# Altium schematic symbol library Swage.SchLib: 218 symbols (part 4 of 5)
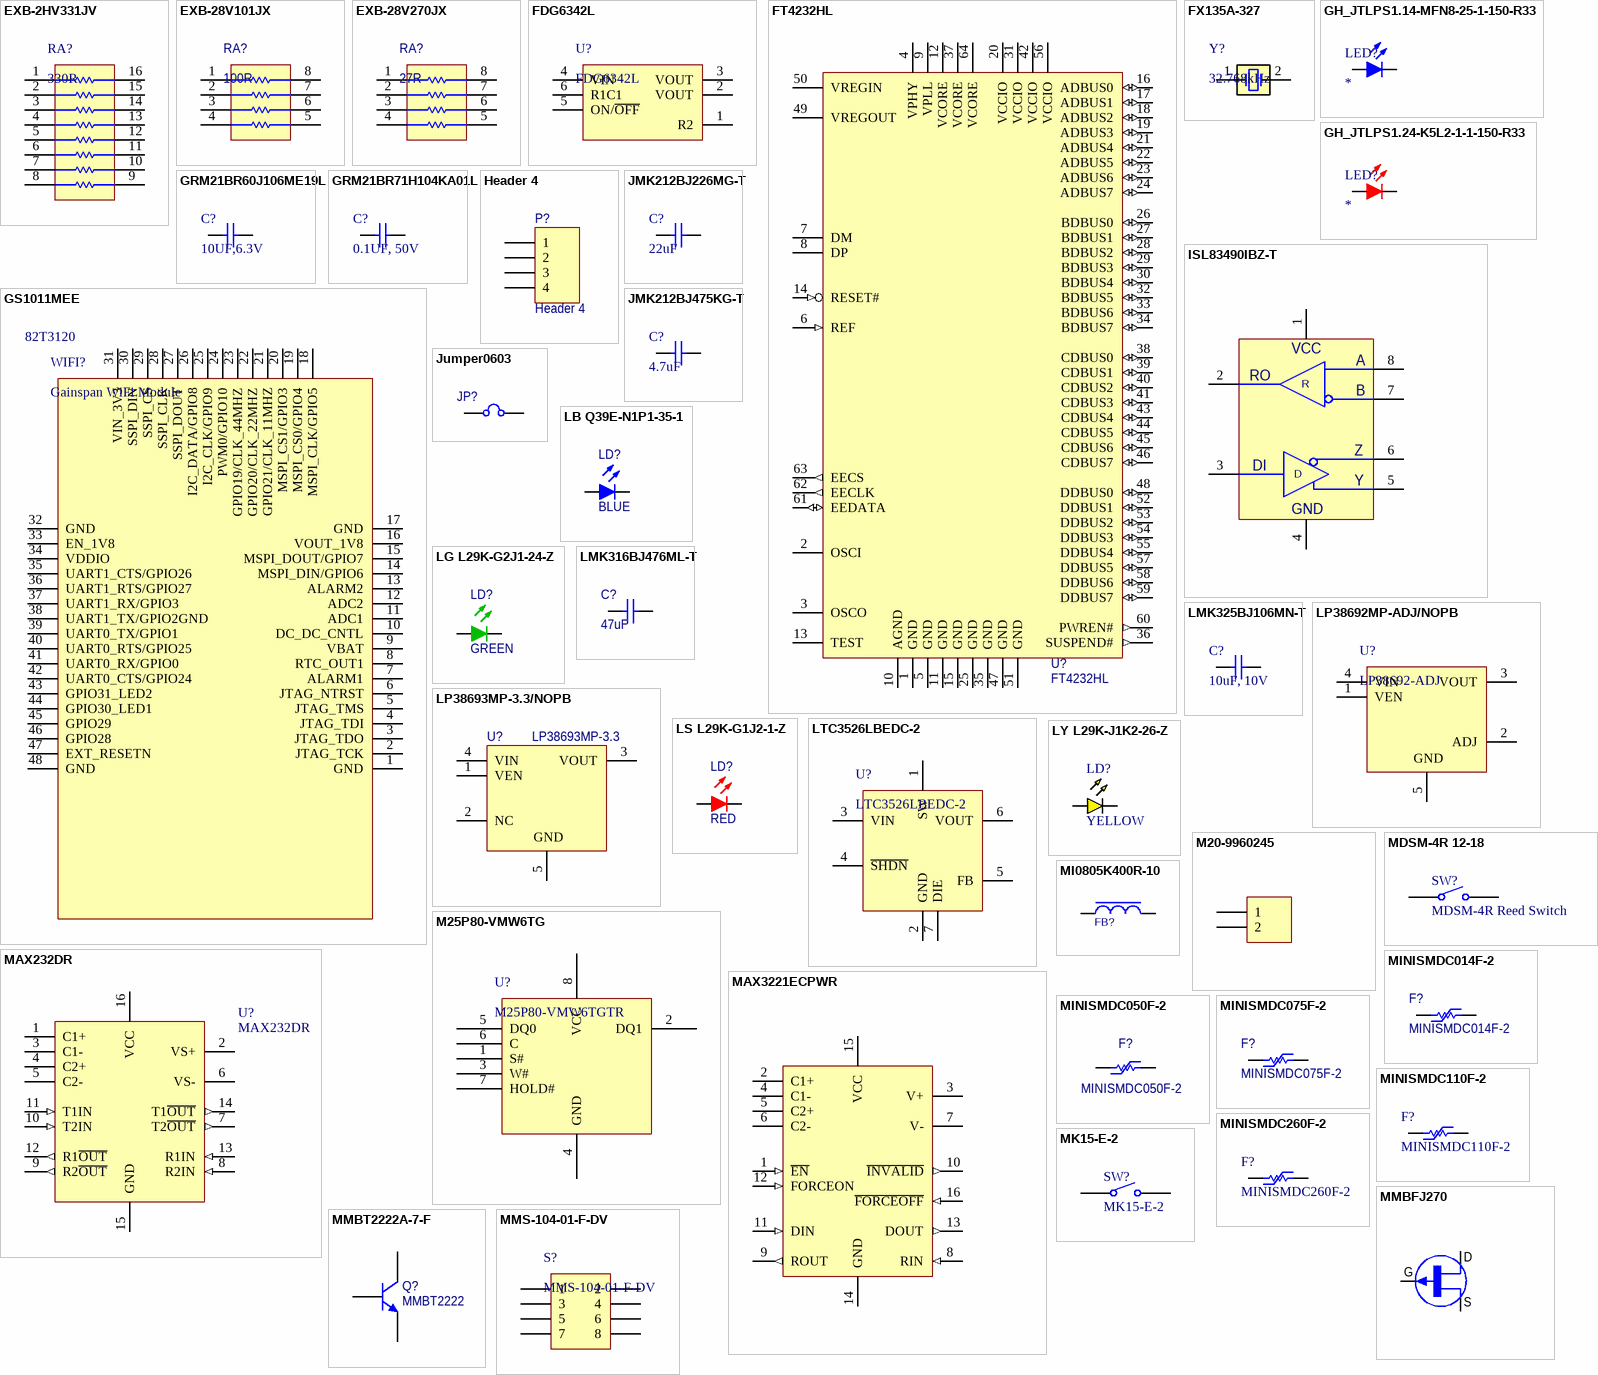
[diagram p8: symbols EXB-2HV331JV to MMS-104-01-F-DV]

## MINISMDC075F-2
designator F?
POLYSWITCH .75A RESET FUSE SMD; Manufacturer: TE Connectivity; Current - Hold (Ih) (Max): 750mA; Current - Trip (It): 1.5A; Current - Max: 100A; Voltage - Max: 13.2V; R Min/Max: 0.110 ~ 0.450 Ohm; Time to Trip: 0.2s; OPI_VID: xxxxx; Supplier 1: Digi-Key; Supplier Part Number 1: MINISMDC075FTR-ND; Manufacturer Part Number: MINISMDC075F-2; RoHS: RoHS Compliant; Category: Circuit Protection; Stock 1: 44000; Pricing 1: 2000=0.18692, 6000=0.17349, 10000=0.1455, 26000=0.13991, 50000=0.13431 (CAD); Package / Case: 1812 (4532 Metric), Concave; Packaging: Tape & Reel (TR); ComponentLink1URL: http://documents.tycoelectronics.com/commerce/DocumentDelivery/DDEController?Action=showdoc&DocId=Specification+Or+Standard%7FSCD25114%7FH%7Fpdf%7FEnglish%7FENG_SS_SCD25114_H.pdf; ComponentLink1Description: http://documents.tycoelectronics.com/commerce/DocumentDelivery/DDEController?Action=showdoc&DocId=Specification+Or+Standard%7FSCD25114%7FH%7Fpdf%7FEnglish%7FENG_SS_SCD25114_H.pdf
footprint MINISMD050 (Polyfuse,)
pins: 1, 2

## MINISMDC110F-2
designator F?
POLYSWITCH 1.1A RESET FUSE SMD; Manufacturer: TE Connectivity; Current - Trip (It): 2.2A; Current - Max: 100A; Voltage - Max: 8V; R Min/Max: 0.040 ~ 0.210 Ohm; Time to Trip: 0.3s; OPI_VID: 101205; Supplier 1: Digi-Key; Manufacturer Part Number: MINISMDC110F-2; RoHS: RoHS Compliant; Category: Circuit Protection; Stock 1: 24000; Pricing 1: 2000=0.17214, 6000=0.15977, 10000=0.134, 26000=0.12885, 50000=0.12369 (CAD); Current - Hold (Ih) (Max): 1.1A; Package / Case: 1812 (4532 Metric), Concave; Packaging: Tape & Reel (TR); ComponentLink1URL: http://www.te.com/commerce/DocumentDelivery/DDEController?Action=srchrtrv&DocNm=SCD25273&DocType=Customer+Drawing&DocLang=English; ComponentLink1Description: http://www.te.com/commerce/DocumentDelivery/DDEController?Action=srchrtrv&DocNm=SCD25273&DocType=Customer+Drawing&DocLang=English; Supplier Part Number 1: MINISMDC110FTR-ND
footprint MINISMDC260F (Polyfuse, Body 45x32mm, Case 1812)
pins: 1, 2

## MINISMDC260F-2
designator F?
POLYSWITCH 2.6A RESET FUSE SMD; Manufacturer: TE Connectivity; Current - Trip (It): 5A; Current - Max: 100A; Voltage - Max: 6V; R Min/Max: 0.015 ~ 0.043 Ohm; Time to Trip: 7s; OPI_VID: 101385; Supplier 1: Digi-Key; Manufacturer Part Number: MINISMDC260F-2; RoHS: RoHS Compliant; Category: Circuit Protection; Stock 1: 6000; Pricing 1: 2000=0.2349, 6000=0.21802, 10000=0.18285, 26000=0.17582, 50000=0.16879 (CAD); Current - Hold (Ih) (Max): 2.6A; Package / Case: 1812 (4532 Metric), Concave; Packaging: Tape & Reel (TR); ComponentLink1URL: http://www.te.com/commerce/DocumentDelivery/DDEController?Action=showdoc&DocId=Catalog+Section%7FSURFACE-MOUNT%7FA1%7Fpdf%7FEnglish%7FENG_CS_SURFACE-MOUNT_A1.pdf; ComponentLink1Description: http://www.te.com/commerce/DocumentDelivery/DDEController?Action=showdoc&DocId=Catalog+Section%7FSURFACE-MOUNT%7FA1%7Fpdf%7FEnglish%7FENG_CS_SURFACE-MOUNT_A1.pdf; Supplier Part Number 1: MINISMDC260FTR-ND
footprint MINISMDC260F (Polyfuse, Body 45x32mm, Case 1812)
pins: 1, 2

## MK15-E-2
designator SW?
SWITCH REED MAG SMT 25-30 AT; Manufacturer: Standex-Meder Electronics; Category 1: Switches; Circuit: SPST-NO; Must Operate: 25 ~ 30AT; Switching Current (DC) (Max): 500mA; Switching Voltage (DC) (Max): 180V; Switching Power (Max): 10W; Magnet: Not Specified; OPI_VID: 101384; Supplier 1: Digi-Key; Supplier Part Number 1: 374-1303-1-ND; Manufacturer Part Number: MK15-E-2; RoHS 1: RoHS Compliant; Stock 1: 4362; Pricing 1: 1=1.91, 10=1.674, 25=1.6076, 100=1.4735, 250=1.17212, 500=1.07162, 1000=1.03814 (CAD); Packaging: Cut Tape (CT); Type: Molded Body; Must Release: -; Mounting Type: PCB, Surface Mount; Termination Style: Gull Wing; ComponentLink1URL: http://www.meder.com/fileadmin/products/en_datasheets/9151710025e.pdf; ComponentLink1Description: http://www.meder.com/fileadmin/products/en_datasheets/9151710025e.pdf
footprint MK15-E-2 (Reed Switch, 2-Leads, Body 16x2.84mm, IPC Medium Density)
pins: 1, 2

## MMBFJ270
designator Q?
IC SWITCH P-CHANNEL SOT-23; Manufacturer: Fairchild Semiconductor; Current - Drain (Idss) @ Vds (Vgs: 0)=2mA @ 15V; Voltage - Breakdown (V(BR)GSS): 30V; Voltage - Cutoff (VGS off) @ Id: 500mV @ 1nA; Power - Max: 225mW; OPI_VID: 101484; Supplier 1: Digi-Key; Supplier Part Number 1: MMBFJ270TR-ND; Manufacturer Part Number: MMBFJ270; RoHS: RoHS Compliant; Category: Discrete Semiconductor Products; Stock 1: 15000; Pricing 1: 3000=0.14055, 6000=0.13203, 15000=0.12352, 30000=0.11329, 75000=0.10903, 150000=0.10477 (CAD); Packaging: Tape & Reel (TR); Drain to Source Voltage (Vdss): -; Current Drain (Id) - Max: -; FET Type: P-Channel; Input Capacitance (Ciss) @ Vds: -; Resistance - RDS(On): -; Mounting Type: Surface Mount; Package / Case: TO-236-3, SC-59, SOT-23-3; Supplier Device Package: SOT-23-3 (TO-236); ComponentLink1URL: http://www.fairchildsemi.com/ds/MM/MMBFJ270.pdf; ComponentLink1Description: http://www.fairchildsemi.com/ds/MM/MMBFJ270.pdf
footprint SOT23 (SOT-23; 3 Leads; Body 3.0 x 2.6 mm, inc. leads (LxW max))
pins: 1 D, 2 S, 3 G

## MMBT2222A-7-F
designator Q?, comment MMBT2222
TRANS NPN 40V 350MW SMD SOT23-3; Manufacturer: Diodes Inc; Manufacturer Part Number: MMBT2222A-7-F; Category 1: Discrete Semiconductor Products; Current - Collector (Ic) (Max): 600mA; Vce Saturation (Max) @ Ib, Ic: 1V @ 50mA, 500mA; DC Current Gain (hFE) (Min) @ Ic, Vce: 100 @ 150mA, 10V; Power - Max: 300mW; Frequency - Transition: 300MHz; OPI_VID: 101075; Supplier 1: Digi-Key; Supplier Part Number 1: MMBT2222A-FDITR-ND; RoHS 1: RoHS Compliant; Description 1: TRANS NPN 40V 350MW SMD SOT23-3; Stock 1: 1557000; Pricing 1: 3000=0.0243, 6000=0.02115, 12000=0.018, 27000=0.0153, 51000=0.0135, 102000=0.0117 (USD); Transistor Type: NPN; Voltage - Collector Emitter Breakdown (Max): 40V; Current - Collector Cutoff (Max): -; Mounting Type: Surface Mount; Package / Case: TO-236-3, SC-59, SOT-23-3; Packaging: Tape & Reel (TR); Supplier Device Package: *; ComponentLink1URL: http://www.diodes.com/datasheets/ds30041.pdf; ComponentLink1Description: http://www.diodes.com/datasheets/ds30041.pdf
footprint SOT23 (SOT-23; 3 Leads; Body 3.0 x 2.6 mm, inc. leads (LxW max))
footprint SOT23 (SOT-23; 3 Leads; Body 3.0 x 2.6 mm, inc. leads (LxW max))
pins: 1 B, 2 E, 3 C

## MMS-104-01-F-DV
designator S?
CONN RCPT 2MM 8POS DL VERT PCB; Manufacturer: Samtec Inc; Connector Type: Receptacle; Number of Positions: 8; Number of Positions Loaded: All; Pitch: 0.079" (2.00mm); OPI_VID: 101488; Single Source: YES, 2 week lead time; Supplier 1: Digi-Key; Manufacturer Part Number: MMS-104-01-F-DV; RoHS: RoHS Compliant; Category: Connectors, Interconnects; Stock 1: 0; Pricing 1: 1=2.61, 10=2.261, 100=1.9131, 500=1.52184, 1000=1.23922, 5000=1.13051, 10000=1.08703 (CAD); Contact Type: Female Socket; Number of Rows: 2; Row Spacing: 0.079" (2.00mm); Mounting Type: Through Hole; Termination: Solder; Fastening Type: -; Features: -; Contact Finish: Tin; Contact Finish Thickness: -; Color: Black; Packaging: Tube; ComponentLink1URL: http://www.samtec.com/ftppub/cpdf/MMS01MKT.PDF; ComponentLink1Description: http://www.samtec.com/ftppub/cpdf/MMS01MKT.PDF; Supplier Part Number 1: SAM1232-04-ND
footprint hirose-2x4 (A3D-8DA-2DSE, 2mm pitch, Female)
pins: 1, 2, 3, 4, 5, 6, 7, 8

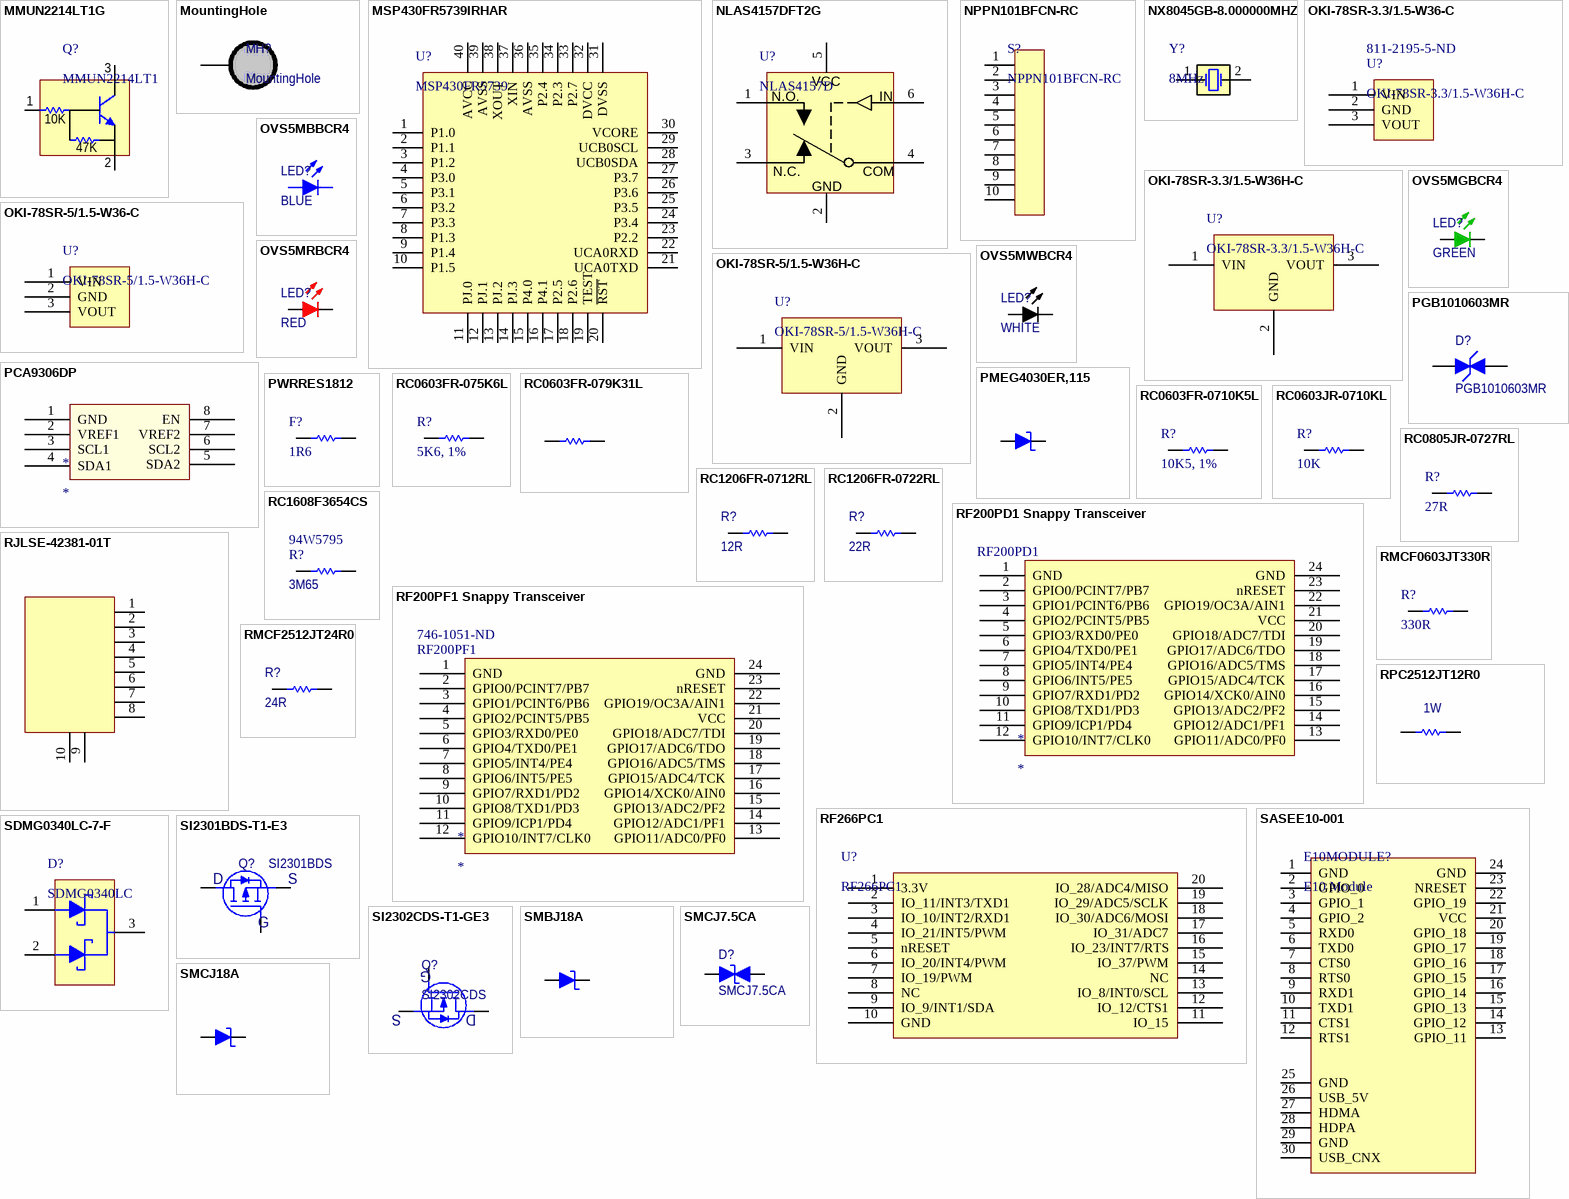
[diagram p4: symbols MMUN2214LT1G to SMCJ18A]

## MMUN2214LT1G
designator Q?, comment MMUN2214LT1
TRANS BRT NPN 100MA 50V SOT-23; Manufacturer: ON Semiconductor; Manufacturer Part Number: MMUN2214LT1G; Transistor Type: NPN - Pre-Biased; Resistor - Base (R1) (Ohms): 10k; Resistor - Emitter Base (R2) (Ohms): 47k; DC Current Gain (hFE) (Min) @ Ic, Vce: 80 @ 5mA, 10V; Vce Saturation (Max) @ Ib, Ic: 250mV @ 300µA, 10mA; Current - Collector Cutoff (Max): 500nA; Power - Max: 246mW; OPI_VID: xxxxx; Supplier 1: Digi-Key; RoHS: RoHS Compliant; Category: Discrete Semiconductor Products; Stock 1: 36000; Pricing 1: 3000=0.02464, 6000=0.02223, 15000=0.01933, 30000=0.01739, 75000=0.01546, 150000=0.01285 (CAD); Current - Collector (Ic) (Max): 100mA; Voltage - Collector Emitter Breakdown (Max): 50V; Frequency - Transition: -; Mounting Type: Surface Mount; Package / Case: TO-236-3, SC-59, SOT-23-3; Supplier Device Package: SOT-23-3 (TO-236); Packaging: Tape & Reel (TR); ComponentLink1URL: http://www.onsemi.com/pub_link/Collateral/DTC114Y-D.PDF; ComponentLink1Description: http://www.onsemi.com/pub_link/Collateral/DTC114Y-D.PDF; Supplier Part Number 1: MMUN2214LT1GOSTR-ND
footprint SOT23 (SOT-23; 3 Leads; Body 3.0 x 2.6 mm, inc. leads (LxW max))
pins: 1 B, 2 E, 3 C
text: 10K; 47K

## MountingHole
designator MH?
PCB Mounting Hole, 0.150" hole, 0.270" Keepout
footprint MountingHole (PCB Mounting Hole, 0.150" hole, 0.270" Keepout)
pins: 1

## MSP430FR5739IRHAR
designator U?, comment MSP430FR5739
IC MCU 16BIT 16KB FRAM 40VQFN; Manufacturer: Texas Instruments; Manufacturer Part Number: MSP430FR5739IRHAR; Core Processor: RISC; Core Size: 16-Bit; Speed: 24MHz; Connectivity: I²C, IrDA, LIN, SCI, SPI, UART/USART; Peripherals: Brown-out Detect/Reset, POR, PWM, WDT; Number of I /O: 32; Program Memory Size: 16KB (16K x 8); RAM Size: 1K x 8; Voltage - Supply (Vcc/Vdd): 2 V ~ 3.6 V; Data Converters: A/D 14x10b; Oscillator Type: Internal; OPI_VID: xxxxx; Supplier 1: Digi-Key; RoHS: RoHS Compliant; Category: Integrated Circuits (ICs); Stock 1: 2500; Pricing 1: 2500=2.95556 (CAD); Program Memory Type: FRAM; EEPROM Size: -; Operating Temperature: -40°C ~ 85°C; Package / Case: 40-VFQFN Exposed Pad; Packaging: Tape & Reel (TR); ComponentLink1URL: http://www.ti.com/lit/ds/symlink/msp430fr5739.pdf; ComponentLink1Description: http://www.ti.com/lit/ds/symlink/msp430fr5739.pdf; Supplier Part Number 1: 296-29236-2-ND
footprint MSP430FR5739IRHA (QFN, 40-Leads, Body 6.2x6.2mm (max), Pitch 0.50mm, IPC Medium Density)
pins: 1 P1.0, 2 P1.1, 3 P1.2, 4 P3.0, 5 P3.1, 6 P3.2, 7 P3.3, 8 P1.3, 9 P1.4, 10 P1.5, 11 PJ.0, 12 PJ.1, 13 PJ.2, 14 PJ.3, 15 P4.0, 16 P4.1, 17 P2.5, 18 P2.6, 19 TEST, 20 ~{RST}, 21 UCA0TXD, 22 UCA0RXD, 23 P2.2, 24 P3.4, 25 P3.5, 26 P3.6, 27 P3.7, 28 UCB0SDA, 29 UCB0SCL, 30 VCORE, 31 DVSS, 32 DVCC, 33 P2.7, 34 P2.3, 35 P2.4, 36 AVSS, 37 XIN, 38 XOUT, 39 AVSS, 40 AVCC

## NLAS4157DFT2G
designator U?, comment NLAS4157D
IC SWITCH SPDT SC88; Manufacturer: ON Semiconductor; Manufacturer Part Number: NLAS4157DFT2G; Circuit: 1 x SPDT; On-State Resistance: 1.15 Ohm; Voltage Supply Source: Single Supply; Voltage - Supply, Single/Dual (±): 1.65 V ~ 5.5 V; Current - Supply: 500nA; OPI_VID: 101351; Supplier 1: Digi-Key; RoHS: RoHS Compliant; Category: Integrated Circuits (ICs); Stock 1: 3000; Pricing 1: 3000=0.15291, 6000=0.14305, 15000=0.13318, 30000=0.12628, 75000=0.12332, 150000=0.11838 (CAD); Function: Switch; Operating Temperature: -40°C ~ 85°C; Mounting Type: Surface Mount; Package / Case: 6-TSSOP, SC-88, SOT-363; Supplier Device Package: SC-88; Packaging: Tape & Reel (TR); ComponentLink1URL: http://www.onsemi.com/pub_link/Collateral/NLAS4157-D.PDF; ComponentLink1Description: http://www.onsemi.com/pub_link/Collateral/NLAS4157-D.PDF; Supplier Part Number 1: NLAS4157DFT2GOSTR-ND
footprint TS5A3160 (SOT23, 6-Leads, Body 2.2x2.4mm (max), Pitch 0.65mm, IPC Medium Density)
pins: 1 NO, 2 GND, 3 NC, 4, 5, 6
text: VCC; N.O.; IN; N.C.; COM

## NPPN101BFCN-RC
designator S?
CONN RECEPT 2MM SINGLE STR 10POS; Manufacturer: Sullins Connector Solutions; Connector Type: Header; Number of Positions: 10; Number of Positions Loaded: All; Pitch: 0.079" (2.00mm); OPI_VID: xxxxx; Supplier 1: Digi-Key; Manufacturer Part Number: NPPN101BFCN-RC; RoHS: RoHS Compliant; Category: Connectors, Interconnects; Stock 1: 16655; Pricing 1: 1=1.19, 10=0.99, 25=0.9172, 50=0.8252, 100=0.7335, 250=0.6418, 500=0.58676, 1000=0.53176, 2500=0.47675 (CAD); Contact Type: Female Socket; Number of Rows: 1; Row Spacing: -; Mounting Type: Through Hole; Termination: Solder; Fastening Type: -; Features: -; Contact Finish: Gold; Contact Finish Thickness: Flash; Color: Black; Packaging: Bulk; ComponentLink1URL: http://www.sullinscorp.com/drawings/75_1BFC_10483.pdf; ComponentLink1Description: http://www.sullinscorp.com/drawings/75_1BFC_10483.pdf; Supplier Part Number 1: S5751-10-ND
pins: 1, 2, 3, 4, 5, 6, 7, 8, 9, 10

## NX8045GB-8.000000MHZ
designator Y?, comment 8MHz
CRYSTAL 8.000000 MHZ 8PF SMD; Manufacturer: NDK; Manufacturer Part Number: NX8045GB-8.000000MHZ; Frequency Stability: ±50ppm; ESR (Equivalent Series Resistance): 200 Ohm; Operating Mode: Fundamental; OPI_VID: 101362; Supplier 1: Digi-Key; RoHS: RoHS Compliant; Category: Crystals and Oscillators; Stock 1: 24000; Pricing 1: 1000=0.30318, 3000=0.29236, 5000=0.28153, 10000=0.27071, 25000=0.25988 (CAD); Type: MHz Crystal; Frequency: 8MHz; Frequency Tolerance: ±50ppm; Load Capacitance: 8pF; Operating Temperature: -10°C ~ 70°C; Ratings: -; Mounting Type: Surface Mount; Package / Case: 2-SMD; Size / Dimension: 0.315" L x 0.177" W (8.00mm x 4.50mm); Height: 0.079" (2.00mm); Packaging: Tape & Reel (TR); ComponentLink1URL: http://media.digikey.com/pdf/Data%20Sheets/NDK%20PDFs/NX8045GB.pdf; ComponentLink1Description: http://media.digikey.com/pdf/Data%20Sheets/NDK%20PDFs/NX8045GB.pdf; Supplier Part Number 1: 644-1018-2-ND
footprint NX8045GB (Crystal, 8MHz, SMD)
pins: 1 OSC1, 2 OSC2

## OKI-78SR-3.3/1.5-W36-C
designator U?, comment OKI-78SR-3.3/1.5-W36H-C  Supplier Part Number 1: 811-2195-5-ND
CONV DC/DC 4.95W 36VIN 3.3VOUT; Manufacturer: Murata Power Solutions Inc; Manufacturer Part Number: OKI-78SR-3.3/1.5-W36-C; Power (Watts) - Manufacture Series: 5W; Number of Outputs: 1; Voltage - Input (Min): 7V; Voltage - Input (Max): 36V; Voltage - Output 1: 3.3V; Current - Output (Max): 1.5A; Efficiency: 85.5%; OPI_VID: xxxxx; Supplier 1: Digi-Key; RoHS: RoHS Compliant; Category: Power Supplies - Board Mount; Stock 1: 2633; Pricing 1: 1=4.3, 5=4.26, 10=4.23, 25=4.17, 50=4.04, 100=3.78, 250=3.60432 (USD); Type: Non-Isolated PoL Module, Analog; Voltage - Output 2: -; Voltage - Output 3: -; Voltage - Isolation: *; Features: *; Mounting Type: Through Hole; Package / Case: 3-SIP Module; Size / Dimension: 0.41" L x 0.30" W x 0.65" H (10.4mm x 7.6mm x 16.5mm); Packaging: Tube; Operating Temperature: -40°C ~ 85°C; Power (Watts) - Max: 4.95W; ComponentLink1URL: http://www.murata-ps.com/data/power/oki-78sr.pdf; ComponentLink1Description: http://www.murata-ps.com/data/power/oki-78sr.pdf
pins: 1 VIN, 2 GND, 3 VOUT

## OKI-78SR-3.3/1.5-W36H-C
designator U?
DC/DC Converters 24Vin 3.3Vout 1.5A Horizontal Mount; Manufacturer: Murata Power Solutions; Input Voltage (nominal): 24 V; Number of Outputs: 1; Output Power: 4.95 W; Package / Case Size: 16.5 mm x 10.4 mm x 7.6 mm; Input Voltage Range: 7 V to 36 V; Output Voltage (Channel 1): 3.3 V; Product Status: New Product; OPI_VID: 101415; Supplier 1: Mouser; Supplier Part Number 1: 580-OKI78SR3.31.5WHC; Manufacturer Part Number: OKI-78SR-3.3/1.5-W36H-C; RoHS: RoHS Compliant; Category: DC/DC Converters; Stock 1: 723; Pricing 1: 1=4.58, 5=4.49, 10=4.43, 25=4.35, 50=4.23, 100=4.00, 200=3.82 (CAD); Product: Non-Isolated / POL; Series: Okami; Mounting Style: SMD/SMT; Output Current (Channel 1): 1.5 A; Product Category: Non-Isolated DC-DC Converters; RoHS - Mouser: Y; Minimum Order Quantity: 1; Reeling: False; ComponentLink1URL: http://www.mouser.com/ds/2/281/oki-78sr-56393.pdf; ComponentLink1Description: http://www.mouser.com/ds/2/281/oki-78sr-56393.pdf
footprint OKI-SR78xx-H (Regulator, 3 Terminal, Switching, Horizontal Mount)
pins: 1 VIN, 2 GND, 3 VOUT

## OKI-78SR-5/1.5-W36-C
designator U?, comment OKI-78SR-5/1.5-W36H-C
CONV DC/DC 7.5W 36VIN 5VOUT; Manufacturer: Murata Power Solutions Inc; Manufacturer Part Number: OKI-78SR-5/1.5-W36-C; Power (Watts) - Manufacture Series: 8W; Number of Outputs: 1; Voltage - Input (Min): 7V; Voltage - Input (Max): 36V; Voltage - Output 1: 5V; Current - Output (Max): 1.5A; Efficiency: 90.5%; OPI_VID: xxxxx; Supplier 1: Digi-Key; RoHS: RoHS Compliant; Category: Power Supplies - Board Mount; Stock 1: 855; Pricing 1: 1=4.3, 5=4.26, 10=4.23, 25=4.17, 50=4.04, 100=3.78, 250=3.60432 (USD); Type: Non-Isolated PoL Module, Analog; Voltage - Output 2: -; Voltage - Output 3: -; Voltage - Isolation: *; Features: *; Mounting Type: Through Hole; Package / Case: 3-SIP Module; Size / Dimension: 0.41" L x 0.30" W x 0.65" H (10.4mm x 7.6mm x 16.5mm); Packaging: Tube; Operating Temperature: -40°C ~ 85°C; Power (Watts) - Max: 7.5W; ComponentLink1URL: http://www.murata-ps.com/data/power/oki-78sr.pdf; ComponentLink1Description: http://www.murata-ps.com/data/power/oki-78sr.pdf; Supplier Part Number 1: 811-2196-5-ND
pins: 1 VIN, 2 GND, 3 VOUT

## OKI-78SR-5/1.5-W36H-C
designator U?
DC/DC Converters 7.5W 24V 5Vout 1.5A Horizontal Mount; Manufacturer: Murata Power Solutions; Number of Outputs: 1; Package / Case Size: 16.5 mm x 10.4 mm x 7.6 mm; Input Voltage Range: 7 V to 36 V; Output Voltage (Channel 1): 5 V; Product Status: New Product; OPI_VID: 101414; Supplier 1: Mouser; Supplier Part Number 1: 580-OKI78SR51.5W36HC; Manufacturer Part Number: OKI-78SR-5/1.5-W36H-C; RoHS: RoHS Compliant; Category: DC/DC Converters; Stock 1: 5455; Pricing 1: 1=4.58, 5=4.49, 10=4.43, 25=4.35, 50=4.23, 100=4.00, 200=3.82 (CAD); Input Voltage (nominal): 24 V; Output Power: 7.5 W; Product: Non-Isolated / POL; Series: Okami; Mounting Style: SMD/SMT; Output Current (Channel 1): 1.5 A; Product Category: Non-Isolated DC-DC Converters; RoHS - Mouser: Y; Minimum Order Quantity: 1; Reeling: False; ComponentLink1URL: http://www.mouser.com/ds/2/281/oki-78sr-56393.pdf; ComponentLink1Description: http://www.mouser.com/ds/2/281/oki-78sr-56393.pdf
footprint OKI-SR78xx-H (Regulator, 3 Terminal, Switching, Horizontal Mount)
pins: 1 VIN, 2 GND, 3 VOUT

## OVS5MBBCR4
designator LED?, comment BLUE
LED 0.48W BLUE WTR CLR 3.5MM; Manufacturer: TT Electronics/Optek Technology; Manufacturer Part Number: OVS5MBBCR4; Current - Max: 180mA; Voltage - Forward (Vf) Typ: 3.4V; Lumens @ Current - Max: 7 lm; Luminous Flux @ Current - Test: 6 lm; Lumens/Watt @ Current - Test: 12 lm/W; Current - Test: 150mA; Wavelength: 470nm; Lens Style/Size: Round with Flat Top, 2.6mm; Viewing Angle: 120°; OPI_VID: 101534; Supplier 1: Digi-Key; Supplier Part Number 1: 365-1544-2-ND; RoHS: RoHS Compliant; Category: Optoelectronics; Stock 1: 17000; Pricing 1: 1000=0.33931, 3000=0.32892, 5000=0.31103, 10000=0.3075, 25000=0.29696 (CAD); Color: Blue; Mounting Type: Surface Mount; Package / Case: 0.14" L x 0.14" W x 0.05" H (3.5mm x 3.5mm x 1.2mm); Packaging: Tape & Reel (TR); ComponentLink1URL: http://www.optekinc.com/datasheets/OVS5MABCR4.pdf; ComponentLink1Description: http://www.optekinc.com/datasheets/OVS5MABCR4.pdf
footprint LED-OVS5MxBCR4 (LED, Water Clear Lens, 3.5mm x 3.5mm x 1.2mm)
pins: A, K

## OVS5MGBCR4
designator LED?, comment GREEN
LED 0.48W GREEN WTR CLR 3.5MM; Manufacturer: TT Electronics/Optek Technology; Manufacturer Part Number: OVS5MGBCR4; Current - Max: 180mA; Voltage - Forward (Vf) Typ: 3.4V; Lumens @ Current - Max: 28 lm; Luminous Flux @ Current - Test: 25 lm; Lumens/Watt @ Current - Test: 49 lm/W; Current - Test: 150mA; Wavelength: 527nm; Lens Style/Size: Round with Flat Top, 2.6mm; Viewing Angle: 120°; OPI_VID: 101325; Supplier 1: Digi-Key; Supplier Part Number 1: 365-1545-2-ND; RoHS: RoHS Compliant; Category: Optoelectronics; Stock 1: 2000; Pricing 1: 1000=0.76344, 3000=0.73163, 5000=0.71042, 10000=0.68922, 25000=0.66801 (CAD); Color: Green; Mounting Type: Surface Mount; Package / Case: 0.14" L x 0.14" W x 0.05" H (3.5mm x 3.5mm x 1.2mm); Packaging: Tape & Reel (TR); ComponentLink1URL: http://www.optekinc.com/datasheets/OVS5MABCR4.pdf; ComponentLink1Description: http://www.optekinc.com/datasheets/OVS5MABCR4.pdf
footprint LED-OVS5MxBCR4 (LED, Water Clear Lens, 3.5mm x 3.5mm x 1.2mm)
pins: A, K

## OVS5MRBCR4
designator LED?, comment RED
LED 0.33W RED WTR CLR 3.5MM; Manufacturer: TT Electronics/Optek Technology; Manufacturer Part Number: OVS5MRBCR4; Current - Max: 200mA; Voltage - Forward (Vf) Typ: 2.2V; Current - Test: 150mA; Wavelength: 625nm; Lens Style/Size: Round with Flat Top, 2.6mm; Viewing Angle: 120°; OPI_VID: 101324; Supplier 1: Digi-Key; Supplier Part Number 1: 365-1546-2-ND; RoHS: RoHS Compliant; Category: Optoelectronics; Stock 1: 6000; Pricing 1: 1000=0.29689, 3000=0.28629, 5000=0.27569, 10000=0.26508, 25000=0.25448 (CAD); Color: Red; Lumens @ Current - Max: -; Luminous Flux @ Current - Test: -; Lumens/Watt @ Current - Test: -; Mounting Type: Surface Mount; Package / Case: 0.14" L x 0.14" W x 0.05" H (3.5mm x 3.5mm x 1.2mm); Packaging: Tape & Reel (TR); ComponentLink1URL: http://www.optekinc.com/datasheets/OVS5MABCR4.pdf; ComponentLink1Description: http://www.optekinc.com/datasheets/OVS5MABCR4.pdf
footprint LED-OVS5MxBCR4 (LED, Water Clear Lens, 3.5mm x 3.5mm x 1.2mm)
pins: A, K

## OVS5MWBCR4
designator LED?, comment WHITE
LED 0.48W WHITE WTR CLR 3.5MM; Manufacturer: TT Electronics/Optek Technology; Manufacturer Part Number: OVS5MWBCR4; Current - Max: 180mA; Voltage - Forward (Vf) Typ: 3.6V; Lumens @ Current - Max: 28 lm; Luminous Flux @ Current - Test: 25 lm; Lumens/Watt @ Current - Test: 46 lm/W; Current - Test: 150mA; Lens Style/Size: Round with Flat Top, 2.6mm; Viewing Angle: 120°; OPI_VID: xxxxx; Supplier 1: Digi-Key; Supplier Part Number 1: 365-1547-2-ND; RoHS: RoHS Compliant; Category: Optoelectronics; Stock 1: 10000; Pricing 1: 1000=0.47715, 3000=0.45594, 5000=0.44534, 10000=0.42413, 25000=0.41353 (CAD); Color: White; Wavelength: -; Mounting Type: Surface Mount; Package / Case: 0.14" L x 0.14" W x 0.05" H (3.5mm x 3.5mm x 1.2mm); Packaging: Tape & Reel (TR); ComponentLink1URL: http://www.optekinc.com/datasheets/OVS5MABCR4.pdf; ComponentLink1Description: http://www.optekinc.com/datasheets/OVS5MABCR4.pdf
footprint LED-OVS5MxBCR4 (LED, Water Clear Lens, 3.5mm x 3.5mm x 1.2mm)
pins: A, K

## PCA9306DP
designator *
IC LEVEL TRANSLATOR - TSSOP8; Manufacturer: ON Semiconductor; Manufacturer Part Number: PCA9306DTR2G; Description 1: IC VOLT LEVEL TRANSLATOR 8-TSSOP; Category 1: Integrated Circuits (ICs); Logic Function: Translator, Bidirectional, Open Drain; Number of Bits: 2; Input Type: Voltage; Number of Outputs/Channel: 1; Differential - Input:Output: No/No; Propagation Delay (Max): 0.6ns; Voltage - Supply: 1 V ~ 3.6 V, 1.8 V ~ 5.5 V; OPI_VID: 101536; Supplier 1: Digi-Key; Supplier Part Number 1: PCA9306DTR2GOSCT-ND; RoHS 1: RoHS Compliant; Stock 1: 2822; Pricing 1: 1=0.85, 10=0.743, 25=0.6568, 100=0.5721, 250=0.498, 500=0.42392, 1000=0.33955 (CAD); Packaging: Cut Tape (CT); Output Type: Voltage; Data Rate: -; Number of Channels: 2; Operating Temperature: -55°C ~ 125°C; Package / Case: 8-TSSOP (0.173", 4.40mm Width); Supplier Device Package: 8-TSSOP; Mounting Type: Surface Mount; ComponentLink1URL: http://www.onsemi.com/pub_link/Collateral/PCA9306-D.PDF; ComponentLink1Description: http://www.onsemi.com/pub_link/Collateral/PCA9306-D.PDF
footprint TSOP65P640X120-8N (TSOP, 8-Leads, Body 3.00x4.40mm, Pitch 0.65mm, IPC Medium Density)
pins: 1 GND, 2 VREF1, 3 SCL1, 4 SDA1, 5 SDA2, 6 SCL2, 7 VREF2, 8 EN

## PGB1010603MR
designator D?
SUPPRESSOR ESD 24VDC 0603 SMD; Manufacturer: Littelfuse Inc; Category 1: Circuit Protection; Voltage - Reverse Standoff (Typ): 24V; Polarization: Bidirectional; OPI_VID: 101020; Supplier 1: Digi-Key; Supplier Part Number 1: F3591TR-ND; RoHS 1: RoHS Compliant; Description 1: SUPPRESSOR ESD 24VDC 0603 SMD; Stock 1: 10000; Pricing 1: 5000=0.189, 10000=0.176, 25000=0.166 (USD); Voltage - Breakdown: -; Mounting Type: Surface Mount; Package / Case: 0603 (1608 Metric); Supplier Device Package: 0603 (1608 Metric); Packaging: Tape & Reel (TR); ComponentLink1URL: http://www.littelfuse.com/data/en/Data_Sheets/Littelfuse_PulseGuard-ESD_PGB1.pdf; ComponentLink1Description: http://www.littelfuse.com/data/en/Data_Sheets/Littelfuse_PulseGuard-ESD_PGB1.pdf; Manufacturer Part Number: PGB1010603MR
footprint RC0603 (Chip Resistor, 2-Leads, Body 1.6x0.8mm, IPC Medium Density)
pins: 1, 2

## PMEG4030ER,115
designator D?
DIODE SCHOTTKY 40V 3A SOD123T; Manufacturer: NXP Semiconductors; Description 1: DIODE SCHOTTKY 40V 3A SOD123W; Category 1: Discrete Semiconductor Products; Voltage - Forward (Vf) (Max) @ If: 540mV @ 3A; Speed: Fast Recovery =< 500ns, > 200mA (Io); Current - Reverse Leakage @ Vr: 100µA @ 40V; Capacitance @ Vr, F: 250pF @ 1V, 1MHz; Thermal Resistance: 18°C/W Jl; OPI_VID: 101442; Supplier 1: Digi-Key; Supplier Part Number 1: 568-6749-2-ND; RoHS 1: RoHS Compliant; Stock 1: 27000; Pricing 1: 3000=0.16633, 6000=0.1556, 15000=0.14487, 30000=0.13736, 75000=0.13414, 150000=0.12877 (CAD); Packaging: Tape & Reel (TR); Diode Type: Schottky; Voltage - DC Reverse (Vr) (Max): 40V; Current - Average Rectified (Io): 3A; Reverse Recovery Time (trr): -; Mounting Type: Surface Mount; Package / Case: SOD-123W; Supplier Device Package: SOD123W; Operating Temperature - Junction: 150°C (Max); ComponentLink1URL: http://www.nxp.com/documents/data_sheet/PMEG4030ER.pdf; ComponentLink1Description: http://www.nxp.com/documents/data_sheet/PMEG4030ER.pdf; Manufacturer Part Number: PMEG4030ER,115
footprint SOD-123T (Molded Diode, 2-Leads, Body 3.70x1.60mm, IPC Medium Density)
pins: 1, 2

## PWRRES1812
designator F?, comment 1R6
RESISTOR 1812 CASE 1R6 SMD; Manufacturer 1: Vishay Dale; Manufacturer Part Number: CRCW12181R60JNEK; Description 1: RES 1.60 OHM 1W 5% 1218 SMD; Category 1: Resistors; Resistance (Ohms): 1.6; Tolerance: ±5%; Power (Watts): 1W; Temperature Coefficient: ±200ppm/°C; OPI_VID: xxxxx; Supplier 1: Digi-Key; Supplier Part Number 1: CRCW12181R60JNEK-ND; RoHS 1: RoHS Compliant; Stock 1: 0; Pricing 1: 4000=0.11076 (CAD); Packaging: Tape & Reel (TR); Composition: Thick Film; Features: Automotive AEC-Q200 Qualified; Package / Case: 1218 (3246 Metric); Supplier Device Package: 1218 (3246 Metric); Size / Dimension: 0.126" L x 0.181" W (3.20mm x 4.60mm); Height: 0.024" (0.60mm); Number of Terminations: 2; ComponentLink1URL: http://www.vishay.com/docs/20035/dcrcwe3.pdf; ComponentLink1Description: http://www.vishay.com/docs/20035/dcrcwe3.pdf; Manufacturer: Vishay Dale
footprint MINISMDC260F (Polyfuse, Body 45x32mm, Case 1812)
pins: 1, 2

## RC0603FR-075K6L
designator R?, comment 5K6, 1%
RES 5.60K OHM 1/10W 1% 0603 SMD; Manufacturer: Yageo; Manufacturer Part Number: RC0603FR-075K6L; Resistance (Ohms): 5.6k; Power (Watts): 0.1W, 1/10W; Temperature Coefficient: ±100ppm/°C; OPI_VID: 101475; Supplier 1: Digi-Key; RoHS: RoHS Compliant; Category: Resistors; Stock 1: 60000; Pricing 1: 5000=0.00199, 10000=0.00173, 25000=0.00152, 50000=0.00139, 125000=0.00137 (CAD); Packaging: Tape & Reel (TR); Composition: Thick Film; Features: -; Tolerance: ±1%; Package / Case: 0603 (1608 Metric); Supplier Device Package: 0603; Size / Dimension: 0.063" L x 0.031" W (1.60mm x 0.80mm); Height: 0.022" (0.55mm); Number of Terminations: 2; ComponentLink1URL: http://www.yageo.com/documents/recent/PYu-RC0603_51_RoHS_L_4.pdf; ComponentLink1Description: http://www.yageo.com/documents/recent/PYu-RC0603_51_RoHS_L_4.pdf; Supplier Part Number 1: 311-5.60KHRTR-ND
footprint RC0603 (Resistor, Capacitor, 0603)
pins: 1, 2

## RC0603FR-079K31L
designator R?, comment 9K31
RES 9.31K OHM 1/10W 1% 0603 SMD; Manufacturer: Yageo; Manufacturer Part Number: RC0603FR-079K31L; Power (Watts): 0.1W, 1/10W; Temperature Coefficient: ±100ppm/°C; OPI_VID: 101474; Supplier 1: Digi-Key; Supplier Part Number 1: 311-9.31KHRTR-ND; RoHS: RoHS Compliant; Category: Resistors; Stock 1: 15000; Pricing 1: 5000=0.00204, 10000=0.00177, 25000=0.00156, 50000=0.00143, 125000=0.0014 (CAD); Packaging: Tape & Reel (TR); Resistance (Ohms): 9.31k; Composition: Thick Film; Features: -; Tolerance: ±1%; Package / Case: 0603 (1608 Metric); Supplier Device Package: 0603; Size / Dimension: 0.063" L x 0.031" W (1.60mm x 0.80mm); Height: 0.022" (0.55mm); Number of Terminations: 2; ComponentLink1URL: http://www.yageo.com/documents/recent/PYu-RC0603_51_RoHS_L_4.pdf; ComponentLink1Description: http://www.yageo.com/documents/recent/PYu-RC0603_51_RoHS_L_4.pdf
footprint RC0603 (Resistor, Capacitor, 0603)
pins: 1, 2

## RC0603FR-0710K5L
designator R?, comment 10K5, 1%
RES 10.5K OHM 1/10W 1% 0603 SMD; Manufacturer: Yageo; Manufacturer Part Number: RC0603FR-0710K5L; Power (Watts): 0.1W, 1/10W; Temperature Coefficient: ±100ppm/°C; OPI_VID: 101476; Supplier 1: Digi-Key; RoHS: RoHS Compliant; Category: Resistors; Stock 1: 135000; Pricing 1: 5000=0.00199, 10000=0.00173, 25000=0.00152, 50000=0.00139, 125000=0.00137 (CAD); Packaging: Tape & Reel (TR); Resistance (Ohms): 10.5k; Composition: Thick Film; Features: -; Tolerance: ±1%; Package / Case: 0603 (1608 Metric); Supplier Device Package: 0603; Size / Dimension: 0.063" L x 0.031" W (1.60mm x 0.80mm); Height: 0.022" (0.55mm); Number of Terminations: 2; ComponentLink1URL: http://www.yageo.com/documents/recent/PYu-RC0603_51_RoHS_L_4.pdf; ComponentLink1Description: http://www.yageo.com/documents/recent/PYu-RC0603_51_RoHS_L_4.pdf; Supplier Part Number 1: 311-10.5KHRTR-ND
footprint RC0603 (Resistor, Capacitor, 0603)
pins: 1, 2

## RC0603JR-0710KL
designator R?, comment 10K
RES 10K OHM 1/10W 5% 0603 SMD; Manufacturer: Yageo; Manufacturer Part Number: RC0603JR-0710KL; Power (Watts): 0.1W, 1/10W; Temperature Coefficient: ±100ppm/°C; OPI_VID: 101044; Supplier 1: Digi-Key; RoHS: RoHS Compliant; Category: Resistors; Stock 1: 2800000; Pricing 1: 5000=0.00148, 10000=0.00129, 25000=0.00113, 50000=0.00104, 125000=0.00102 (CAD); Resistance (Ohms): 10k; Composition: Thick Film; Features: -; Tolerance: ±5%; Package / Case: 0603 (1608 Metric); Size / Dimension: 0.063" L x 0.031" W (1.60mm x 0.80mm); Height: 0.022" (0.55mm); Number of Terminations: 2; Packaging: Tape & Reel (TR); ComponentLink1URL: http://www.yageo.com/documents/recent/PYu-RC0603_51_RoHS_L_4.pdf; ComponentLink1Description: http://www.yageo.com/documents/recent/PYu-RC0603_51_RoHS_L_4.pdf; Supplier Part Number 1: 311-10KGRTR-ND
footprint rc0603 (Resistor, Capacitor, 0603)
pins: 1, 2

## RC0805JR-0727RL
designator R?, comment 27R
RES 27 OHM 1/8W 5% 0805 SMD; Manufacturer: Yageo; Manufacturer Part Number: RC0805JR-0727RL; Resistance (Ohms): 27; Power (Watts): 0.125W, 1/8W; Temperature Coefficient: ±100ppm/°C; OPI_VID: xxxxx; Supplier 1: Digi-Key; RoHS: RoHS Compliant; Category: Resistors; Stock 1: 195000; Pricing 1: 5000=0.00239, 10000=0.00207, 25000=0.00182, 50000=0.00167, 125000=0.00164 (CAD); Composition: Thick Film; Features: -; Tolerance: ±5%; Package / Case: 0805 (2012 Metric); Size / Dimension: 0.079" L x 0.049" W (2.00mm x 1.25mm); Height: 0.024" (0.60mm); Number of Terminations: 2; Packaging: Tape & Reel (TR); ComponentLink1URL: http://www.yageo.com/documents/recent/PYu-RC0805_51_RoHS_L_4.pdf; ComponentLink1Description: http://www.yageo.com/documents/recent/PYu-RC0805_51_RoHS_L_4.pdf; Supplier Part Number 1: 311-27ARTR-ND
footprint RC0805
pins: 1, 2

## RC1206FR-0712RL
designator R?, comment 12R
RES 12.0 OHM 1/4W 1% 1206 SMD; Manufacturer: Yageo; Manufacturer Part Number: RC1206FR-0712RL; Resistance (Ohms): 12; Power (Watts): 0.25W, 1/4W; Temperature Coefficient: ±100ppm/°C; OPI_VID: 101341; Supplier 1: Digi-Key; Supplier Part Number 1: 311-12.0FRTR-ND; RoHS: RoHS Compliant; Category: Resistors; Stock 1: 20000; Pricing 1: 5000=0.00427, 10000=0.00371, 25000=0.00326, 50000=0.00299, 125000=0.00293 (CAD); Composition: Thick Film; Features: -; Tolerance: ±1%; Package / Case: 1206 (3216 Metric); Size / Dimension: 0.122" L x 0.063" W (3.10mm x 1.60mm); Height: 0.026" (0.65mm); Number of Terminations: 2; Packaging: Tape & Reel (TR); ComponentLink1URL: http://www.yageo.com/documents/recent/PYu-RC1206_51_RoHS_L_4.pdf; ComponentLink1Description: http://www.yageo.com/documents/recent/PYu-RC1206_51_RoHS_L_4.pdf
footprint RC1206 (1206 Footprint)
pins: 1, 2

## RC1206FR-0722RL
designator R?, comment 22R
RES 22.0 OHM 1/4W 1% 1206 SMD; Manufacturer: Yageo; Manufacturer Part Number: RC1206FR-0722RL; Resistance (Ohms): 22; Power (Watts): 0.25W, 1/4W; Temperature Coefficient: ±100ppm/°C; OPI_VID: 101340; Supplier 1: Digi-Key; Supplier Part Number 1: 311-22.0FRTR-ND; RoHS: RoHS Compliant; Category: Resistors; Stock 1: 45000; Pricing 1: 5000=0.00427, 10000=0.00371, 25000=0.00326, 50000=0.00299, 125000=0.00293 (CAD); Composition: Thick Film; Features: -; Tolerance: ±1%; Package / Case: 1206 (3216 Metric); Size / Dimension: 0.122" L x 0.063" W (3.10mm x 1.60mm); Height: 0.026" (0.65mm); Number of Terminations: 2; Packaging: Tape & Reel (TR); ComponentLink1URL: http://www.yageo.com/documents/recent/PYu-RC1206_51_RoHS_L_4.pdf; ComponentLink1Description: http://www.yageo.com/documents/recent/PYu-RC1206_51_RoHS_L_4.pdf
footprint RC1206 (1206 Footprint)
pins: 1, 2

## RC1608F3654CS
designator R?, comment 3M65  Supplier Part Number 2: 94W5795
RES 3M65 OHM 1/10W 1% 0603 SMD; Manufacturer: Samsung; Manufacturer Part Number: RC1608F3654CS; Power (Watts): 0.1W, 1/10W; Temperature Coefficient: ±100ppm/°C; OPI_VID: 101535; Supplier 1: Digi-Key; RoHS: RoHS Compliant; Category: Resistors; Stock 1: 210000; Pricing 1: 5000=0.00257, 10000=0.00224, 25000=0.00196, 50000=0.0018, 125000=0.00177 (CAD); Composition: Thick Film; Features: -; Tolerance: ±1%; Package / Case: 0603 (1608 Metric); Size / Dimension: 0.063" L x 0.031" W (1.60mm x 0.80mm); Height: 0.022" (0.55mm); Number of Terminations: 2; Packaging: Tape & Reel (TR); ComponentLink1URL: http://digikey.com/Suppliers/ca/samsung-electro-mechanics.page?lang=en; Resistance (Ohms): 3M65; Supplier Part Number: 1276-4964-2-ND; Supplier 2: Newark
footprint RC0603 (Resistor, Capacitor, 0603)
pins: 1, 2

## RF200PD1 Snappy Transceiver
designator *  Supplier Part Number 1: RF200PD1
Synapse RF200PD1 Snappy Transceiver; Manufacturer: Synapse Wireless; Antenna Connector: On-Board PCB F Type; Current Receiving: 25 mA; Current Transmitting: 130 mA; Date Interface: PCB Through Hole; Data Rate - Maximum: 2 Mbps; Frequency: 2.4Ghz; Memory Size: 128 KByte FLASH; Modulation or Protocol: SNAP; OPI_VID: 101541; Power - Output: 20dBm; Sensitivity: -107dBm; Voltage - Supply: 2.7 - 3.6 V; Applications: General Purpose; Category: RF/IF and RFID; Component Link Description: http://www.synapse-wireless.com/documents/products/Synapse-RF200PD1-and-RF200PF1-Datasheet.pdf; Component Link URL: http://www.synapse-wireless.com/documents/products/Synapse-RF200PD1-and-RF200PF1-Datasheet.pdf; Manufacturer Part Number: RF200PD1; Operating Temperature: -40 ~ 85 Deg. Cel.; Package / Case: 24 Pin DIP Module; Packaging: Tray; RoHS: RoHS Compliant; Stock: 222; Supplier: DigiKey; Supplier Part Number: 746-1028-ND; Pricing: 1=43.64, 10=40.812, 25=37.7452, 100=35.3862, 250=33.02716, 500=31.3758, 750=30.66807, 1000=30.19626, 2500=29.25262 (CAD); Supplier 1: Arrow; Supplier 2: Digi-Key; Supplier 3: Digi-Key; Supplier Part Number 3: 746-1021-ND
footprint RF200
pins: 1 GND, 2 GPIO0/PCINT7/PB7, 3 GPIO1/PCINT6/PB6, 4 GPIO2/PCINT5/PB5, 5 GPIO3/RXD0/PE0, 6 GPIO4/TXD0/PE1, 7 GPIO5/INT4/PE4, 8 GPIO6/INT5/PE5, 9 GPIO7/RXD1/PD2, 10 GPIO8/TXD1/PD3, 11 GPIO9/ICP1/PD4, 12 GPIO10/INT7/CLK0, 13 GPIO11/ADC0/PF0, 14 GPIO12/ADC1/PF1, 15 GPIO13/ADC2/PF2, 16 GPIO14/XCK0/AIN0, 17 GPIO15/ADC4/TCK, 18 GPIO16/ADC5/TMS, 19 GPIO17/ADC6/TDO, 20 GPIO18/ADC7/TDI, 21 VCC, 22 GPIO19/OC3A/AIN1, 23 nRESET, 24 GND

## RF200PF1 Snappy Transceiver
designator *  Supplier Part Number 1: RF200PF1  Supplier Part Number 2: 746-1051-ND
Synapse RF200PF1 Snappy Transceiver; Manufacturer: Synapse Wireless; Antenna Connector: On-Board PCB F Type; Current Receiving: 25 mA; Current Transmitting: 130 mA; Date Interface: PCB Through Hole; Data Rate - Maximum: 2 Mbps; Frequency: 2.4Ghz; Memory Size: 128 KByte FLASH; Modulation or Protocol: SNAP; OPI_VID: 101308; Power - Output: 20dBm; Sensitivity: -107dBm; Voltage - Supply: 2.7 - 3.6 V; Applications: General Purpose; Category: RF/IF and RFID; Component Link Description: http://www.synapse-wireless.com/documents/products/Synapse-RF200PD1-and-RF200PF1-Datasheet.pdf; Component Link URL: http://www.synapse-wireless.com/documents/products/Synapse-RF200PD1-and-RF200PF1-Datasheet.pdf; Manufacturer Part Number: RF200PF1; Operating Temperature: -40 ~ 85 Deg. Cel.; Package / Case: 24 Pin DIP Module; Packaging: Tray; RoHS: RoHS Compliant; Stock: 222; Supplier: DigiKey; Supplier Part Number: 746-1028-ND; Pricing: 1=43.64, 10=40.812, 25=37.7452, 100=35.3862, 250=33.02716, 500=31.3758, 750=30.66807, 1000=30.19626, 2500=29.25262 (CAD); Supplier 1: Arrow; Supplier 2: Digi-Key
footprint RF200
pins: 1 GND, 2 GPIO0/PCINT7/PB7, 3 GPIO1/PCINT6/PB6, 4 GPIO2/PCINT5/PB5, 5 GPIO3/RXD0/PE0, 6 GPIO4/TXD0/PE1, 7 GPIO5/INT4/PE4, 8 GPIO6/INT5/PE5, 9 GPIO7/RXD1/PD2, 10 GPIO8/TXD1/PD3, 11 GPIO9/ICP1/PD4, 12 GPIO10/INT7/CLK0, 13 GPIO11/ADC0/PF0, 14 GPIO12/ADC1/PF1, 15 GPIO13/ADC2/PF2, 16 GPIO14/XCK0/AIN0, 17 GPIO15/ADC4/TCK, 18 GPIO16/ADC5/TMS, 19 GPIO17/ADC6/TDO, 20 GPIO18/ADC7/TDI, 21 VCC, 22 GPIO19/OC3A/AIN1, 23 nRESET, 24 GND

## RF266PC1
designator U?
RF MODULE 2.4GHZ CHIP; Manufacturer: Synapse Wireless; Data Rate - Maximum: 2Mbps; Modulation or Protocol: SNAP®; Power - Output: 20dBm; Sensitivity: -107dBm; Voltage - Supply: 2.7 V ~ 3.6 V; Current - Receiving: 25mA; Current - Transmitting: 130mA; Data Interface: PCB, Through Hole; Memory Size: 128kB Flash; Antenna Connector: On-Board, Chip; OPI_VID: 101349; Supplier 1: Digi-Key; Manufacturer Part Number: RF266PC1; RoHS: RoHS Compliant; Category: RF/IF and RFID; Stock 1: 222; Pricing 1: 1=43.64, 10=40.812, 25=37.7452, 100=35.3862, 250=33.02716, 500=31.3758, 750=30.66807, 1000=30.19626, 2500=29.25262 (CAD); Frequency: 2.4GHz; Applications: General Purpose; Operating Temperature: -40°C ~ 85°C; Package / Case: 20-DIP Module; Packaging: Tray; ComponentLink1URL: http://www.synapse-wireless.com/documents/products/Synapse-RF-Engine-RF266PC1-Data-Sheet.pdf; ComponentLink1Description: http://www.synapse-wireless.com/documents/products/Synapse-RF-Engine-RF266PC1-Data-Sheet.pdf; Supplier Part Number 1: 746-1028-ND
footprint RF266 (Synapse RF266 SNAP Transceiver)
pins: 1 3.3V, 2 IO_11/INT3/TXD1, 3 IO_10/INT2/RXD1, 4 IO_21/INT5/PWM, 5 nRESET, 6 IO_20/INT4/PWM, 7 IO_19/PWM, 8 NC, 9 IO_9/INT1/SDA, 10 GND, 11 IO_15, 12 IO_12/CTS1, 13 IO_8/INT0/SCL, 14 NC, 15 IO_37/PWM, 16 IO_23/INT7/RTS, 17 IO_31/ADC7, 18 IO_30/ADC6/MOSI, 19 IO_29/ADC5/SCLK, 20 IO_28/ADC4/MISO

## RJLSE-42381-01T
designator RJ45-?, comment RJ45
Modular Connectors / Ethernet Connectors RJ45; shielded; contacts:8; 1 port; Manufacturer: Amphenol Commercial Products; Manufacturer Part Number: RJLSE-42381-01T; Number of Ports: 1; Performance Category: Cat 5; OPI_VID: xxxxx; Supplier 1: Mouser; Supplier Part Number 1: 523-RJLSE-42381-01T; RoHS: RoHS Compliant; Category: Modular Connectors / Ethernet Connectors; Stock 1: 1143; Pricing 1: 1=1.13, 10=1.03, 50=0.899, 100=0.883, 500=0.836, 800=0.836, 1000=0.812, 2000=0.717 (CAD); Color: Black; Contact Plating: Gold; Housing Material: Thermoplastic; Packaging: Reel; Product: Telecom & Ethernet Connectors; Series: RJLSE; Shielding: Shielded; Contact Material: Phosphor Bronze; Flammability Rating: UL 94 V-3; Mounting Style: SMD/SMT; Product Category: Modular Jacks; USOC Codes: RJ45; RoHS - Mouser: Y; Minimum Order Quantity: 1; Reeling: True; ComponentLink1URL: http://www.mouser.com/ds/2/18/RJHSE Series-183739.pdf; ComponentLink1Description: http://www.mouser.com/ds/2/18/RJHSE Series-183739.pdf
footprint RJLSE-42381-01T (RJ45 Connector, Right Angle, SMD)
pins: 1, 2, 3, 4, 5, 6, 7, 8, 9, 10

## RMCF0603JT330R
designator R?, comment 330R
RES 330 OHM 1/10W 5% 0603 SMD; Manufacturer: Stackpole Electronics Inc; Manufacturer Part Number: RMCF0603JT330R; Resistance (Ohms): 330; Power (Watts): 0.1W, 1/10W; Temperature Coefficient: ±200ppm/°C; OPI_VID: 101171; Supplier 1: Digi-Key; RoHS: RoHS Compliant; Category: Resistors; Stock 1: 75000; Pricing 1: 5000=0.00174, 10000=0.00151, 25000=0.00132, 50000=0.00122, 125000=0.00119 (CAD); Composition: Thick Film; Features: -; Tolerance: ±5%; Package / Case: 0603 (1608 Metric); Size / Dimension: 0.061" L x 0.031" W (1.55mm x 0.80mm); Height: 0.022" (0.55mm); Number of Terminations: 2; Packaging: Tape & Reel (TR); ComponentLink1URL: http://www.seielect.com/Catalog/SEI-RMCF_RMCP.pdf; ComponentLink1Description: http://www.seielect.com/Catalog/SEI-RMCF_RMCP.pdf; Supplier Part Number 1: RMCF0603JT330RTR-ND
footprint RC0603 (Resistor, Capacitor, 0603)
pins: 1, 2

## RMCF2512JT24R0
designator R?, comment 24R
RES 24 OHM 1W 5% 2512 SMD; Manufacturer: Stackpole Electronics Inc; Manufacturer Part Number: RMCF2512JT24R0; Resistance (Ohms): 24; Temperature Coefficient: ±200ppm/°C; OPI_VID: 101380; RoHS: RoHS Compliant; Category: Resistors; Composition: Thick Film; Features: -; Tolerance: ±5%; Package / Case: 2512 (6432 Metric); Supplier Device Package: 2512; Size / Dimension: 0.248" L x 0.126" W (6.30mm x 3.20mm); Height: 0.028" (0.70mm); Number of Terminations: 2; Packaging: Tape & Reel (TR); ComponentLink1URL: http://www.seielect.com/Catalog/SEI-RMCF_RMCP.pdf; ComponentLink1Description: http://www.seielect.com/Catalog/SEI-RMCF_RMCP.pdf; Power (Watts): 1W; Supplier 1: Digi-Key; Supplier Part Number 1: RMCF2512JT24R0DKR-ND
footprint RES2512
pins: 1, 2

## RPC2512JT12R0
designator R?, comment 12R  Power (Watts): 1W
RES 12 OHM 1W 5% 2512; Manufacturer: Stackpole Electronics Inc; Manufacturer Part Number: RPC2512JT12R0; Resistance (Ohms): 12; Temperature Coefficient: ±200ppm/°C; OPI_VID: 101463; Supplier 1: Digi-Key; Supplier Part Number 1: RPC2512JT12R0TR-ND; RoHS: RoHS Compliant; Category: Resistors; Stock 1: 4000; Pricing 1: 4000=0.10578, 8000=0.10421, 12000=0.0999, 28000=0.09794, 100000=0.09598 (CAD); Packaging: Tape & Reel (TR); Composition: Thick Film; Features: Pulse Withstanding; Tolerance: ±5%; Package / Case: 2512 (6432 Metric); Supplier Device Package: 2512; Size / Dimension: 0.250" L x 0.126" W (6.35mm x 3.20mm); Height: 0.028" (0.70mm); Number of Terminations: 2; ComponentLink1URL: http://www.seielect.com/Catalog/SEI-RPC.pdf; ComponentLink1Description: http://www.seielect.com/Catalog/SEI-RPC.pdf
footprint RES2512
pins: 1, 2

## SASEE10-001
designator E10MODULE?, comment E10 Module
E10 with no case; Manufacturer: Synapse Wireless; Manufacturer Part Number: SASEE10-001; OPI_VID: 101307; Supplier 1: Digi-Key; RoHS: RoHS Compliant; Category: RF/IF and RFID; Stock 1: 49; Pricing 1: ?; Supplier Part Number 1: ?
footprint SASRE10_001 (E10 Gateway Module)
pins: 1 GND, 2 GPIO_0, 3 GPIO_1, 4 GPIO_2, 5 RXD0, 6 TXD0, 7 CTS0, 8 RTS0, 9 RXD1, 10 TXD1, 11 CTS1, 12 RTS1, 13 GPIO_11, 14 GPIO_12, 15 GPIO_13, 16 GPIO_14, 17 GPIO_15, 18 GPIO_16, 19 GPIO_17, 20 GPIO_18, 21 VCC, 22 GPIO_19, 23 NRESET, 24 GND, 25 GND, 26 USB_5V, 27 HDMA, 28 HDPA, 29 GND, 30 USB_CNX

## SDMG0340LC-7-F
designator D?, comment SDMG0340LC
DIODE SCHOTTKY 40V 30MA SOT323; Manufacturer: Diodes Inc; Manufacturer Part Number: SDMG0340LC-7-F; Voltage - Forward (Vf) (Max) @ If: 370mV @ 1mA; Current - Reverse Leakage @ Vr: 1µA @ 10V; Current - Average Rectified (Io) (per Diode): 30mA (DC); Speed: Small Signal =< 200mA (Io), Any Speed; Diode Configuration: 1 Pair Common Cathode; OPI_VID: 101482; Supplier 1: Digi-Key; Supplier Part Number 1: SDMG0340LC-FDITR-ND; RoHS: RoHS Compliant; Category: Discrete Semiconductor Products; Stock 1: 18000; Pricing 1: 3000=0.08059, 6000=0.07254, 15000=0.06447, 30000=0.06045, 75000=0.05359, 150000=0.05037 (CAD); Packaging: Tape & Reel (TR); Voltage - DC Reverse (Vr) (Max): 40V; Reverse Recovery Time (trr): -; Diode Type: Schottky; Mounting Type: Surface Mount; Package / Case: SC-70, SOT-323; Supplier Device Package: SOT-323; ComponentLink1URL: http://www.diodes.com/datasheets/ds30248.pdf; ComponentLink1Description: http://www.diodes.com/datasheets/ds30248.pdf
footprint SOT-323 (SOT323, 3-Leads, Body 1.97x2.10mm, Pitch 0.65mm, IPC Medium Density)
pins: 1 A, 2 A, 3 K

## SI2301BDS-T1-E3
designator Q?, comment SI2301BDS
MOSFET P-CH 20V 2.2A SOT23-3; Manufacturer: Vishay/Siliconix; Manufacturer Part Number: SI2301BDS-T1-E3; FET Type: MOSFET P-Channel, Metal Oxide; FET Feature: Logic Level Gate; Rds On (Max) @ Id, Vgs: 100 mOhm @ 2.8A, 4.5V; Vgs(th) (Max) @ Id: 950mV @ 250µA; Gate Charge (Qg) @ Vgs: 10nC @ 4.5V; Input Capacitance (Ciss) @ Vds: 375pF @ 6V; Power - Max: 700mW; OPI_VID: 100638; Supplier 1: Digi-Key; Supplier Part Number 1: SI2301BDS-T1-E3TR-ND; RoHS: RoHS Compliant; Category: Discrete Semiconductor Products; Stock 1: 27000; Pricing 1: 3000=0.18924, 6000=0.17754, 12000=0.16479, 27000=0.15628, 51000=0.15309 (CAD); Drain to Source Voltage (Vdss): 20V; Current - Continuous Drain (Id) @ 25° C: 2.2A; Mounting Type: Surface Mount; Package / Case: TO-236-3, SC-59, SOT-23-3; Supplier Device Package: SOT-23-3 (TO-236); Packaging: Tape & Reel (TR); ComponentLink1URL: http://www.vishay.com/doc?72066; ComponentLink1Description: http://www.vishay.com/doc?72066
footprint SOT23(DGS)
pins: D, G, S

## SI2302CDS-T1-GE3
designator Q?, comment SI2302CDS
MOSFET N-CH 20V 2.6A SOT23-3; Manufacturer: Vishay Siliconix; Manufacturer Part Number: SI2302CDS-T1-GE3; FET Type: MOSFET N-Channel, Metal Oxide; FET Feature: Logic Level Gate; Rds On (Max) @ Id, Vgs: 57 mOhm @ 3.6A, 4.5V; Vgs(th) (Max) @ Id: 850mV @ 250µA; Gate Charge (Qg) @ Vgs: 5.5nC @ 4.5V; Power - Max: 710mW; OPI_VID: 101327; Supplier 1: Digi-Key; Supplier Part Number 1: SI2302CDS-T1-GE3TR-ND; RoHS: RoHS Compliant; Category: Discrete Semiconductor Products; Stock 1: 27000; Pricing 1: 3000=0.18079, 6000=0.16912, 15000=0.15746, 30000=0.14871, 75000=0.1458, 150000=0.13996 (CAD); Drain to Source Voltage (Vdss): 20V; Current - Continuous Drain (Id) @ 25° C: 2.6A; Input Capacitance (Ciss) @ Vds: -; Mounting Type: Surface Mount; Package / Case: TO-236-3, SC-59, SOT-23-3; Supplier Device Package: SOT-23-3 (TO-236); Packaging: Tape & Reel (TR); ComponentLink1URL: http://www.vishay.com/docs/68645/si2302cd.pdf; ComponentLink1Description: http://www.vishay.com/docs/68645/si2302cd.pdf
footprint SOT23 (SOT-23; 3 Leads; Body 3.0 x 2.6 mm, inc. leads (LxW max))
pins: 1 G, 2 S, 3 D

## SMBJ18A
designator D?
DIODE TVS 18V 600W UNI-DIR SMB; Manufacturer: Littelfuse Inc; Voltage - Breakdown: 20V; Polarization: Unidirectional; OPI_VID: 100115; Supplier 1: Digi-Key; Supplier Part Number 1: SMBJ18ALFTR-ND; Manufacturer Part Number: SMBJ18A; RoHS: RoHS Compliant; Category: Circuit Protection; Stock 1: 6000; Pricing 1: 3000=0.1539, 6000=0.14397, 15000=0.13404 (CAD); Packaging: Tape & Reel (TR); Voltage - Reverse Standoff (Typ): 18V; Power (Watts): 600W; Mounting Type: Surface Mount; Package / Case: DO-214AA, SMB; Supplier Device Package: SMB; ComponentLink1URL: http://www.littelfuse.com/~/media/Files/Littelfuse/Technical%20Resources/Documents/Data%20Sheets/Littelfuse_TVS%20Diode_SMBJ.pdf; ComponentLink1Description: http://www.littelfuse.com/~/media/Files/Littelfuse/Technical%20Resources/Documents/Data%20Sheets/Littelfuse_TVS%20Diode_SMBJ.pdf
pins: 1, 2

## SMCJ7.5CA
designator D?
DIODE TVS 7.5V 1500W BI 5% SMD; Manufacturer: Bourns Inc.; Voltage - Breakdown: 8.33V; Polarization: Bidirectional; Population Option: YES; OPI_VID: 101200; Supplier 1: Digi-Key; Supplier Part Number 1: SMCJ7.5CABDKR-ND; Manufacturer Part Number: SMCJ7.5CA; RoHS: RoHS Compliant; Category: Circuit Protection; Stock 1: 14551; Pricing 1: 1=0.68, 10=0.599, 50=0.53, 100=0.4616, 500=0.40176, 1000=0.34191 (CAD); Voltage - Reverse Standoff (Typ): 7.5V; Power (Watts): 1500W; Mounting Type: Surface Mount; Package / Case: DO-214AB, SMC; Supplier Device Package: SMC; Packaging: Digi-Reel®; ComponentLink1URL: http://www.bourns.com/data/global/pdfs/SMCJ.pdf; ComponentLink1Description: http://www.bourns.com/data/global/pdfs/SMCJ.pdf; Fitted: YES
footprint DO-214AB
pins: 1, 2

## SMCJ18A
designator D?
DIODE TVS 18V 1500W UNI 5% SMC; Manufacturer: Littelfuse Inc; Voltage - Breakdown: 20V; Polarization: Unidirectional; OPI_VID: 101468; Supplier 1: Digi-Key; Supplier Part Number 1: SMCJ18ALFTR-ND; Manufacturer Part Number: SMCJ18A; RoHS: RoHS Compliant; Category: Circuit Protection; Stock 1: 3000; Pricing 1: 3000=0.25122, 6000=0.23389, 15000=0.22523 (CAD); Packaging: Tape & Reel (TR); Voltage - Reverse Standoff (Typ): 18V; Power (Watts): 1500W; Mounting Type: Surface Mount; Package / Case: DO-214AB, SMC; Supplier Device Package: SMC; ComponentLink1URL: http://www.littelfuse.com/data/en/Data_Sheets/Littelfuse_TVS_Diode_SMCJ.pdf; ComponentLink1Description: http://www.littelfuse.com/data/en/Data_Sheets/Littelfuse_TVS_Diode_SMCJ.pdf
footprint DO-214AB
pins: 1, 2

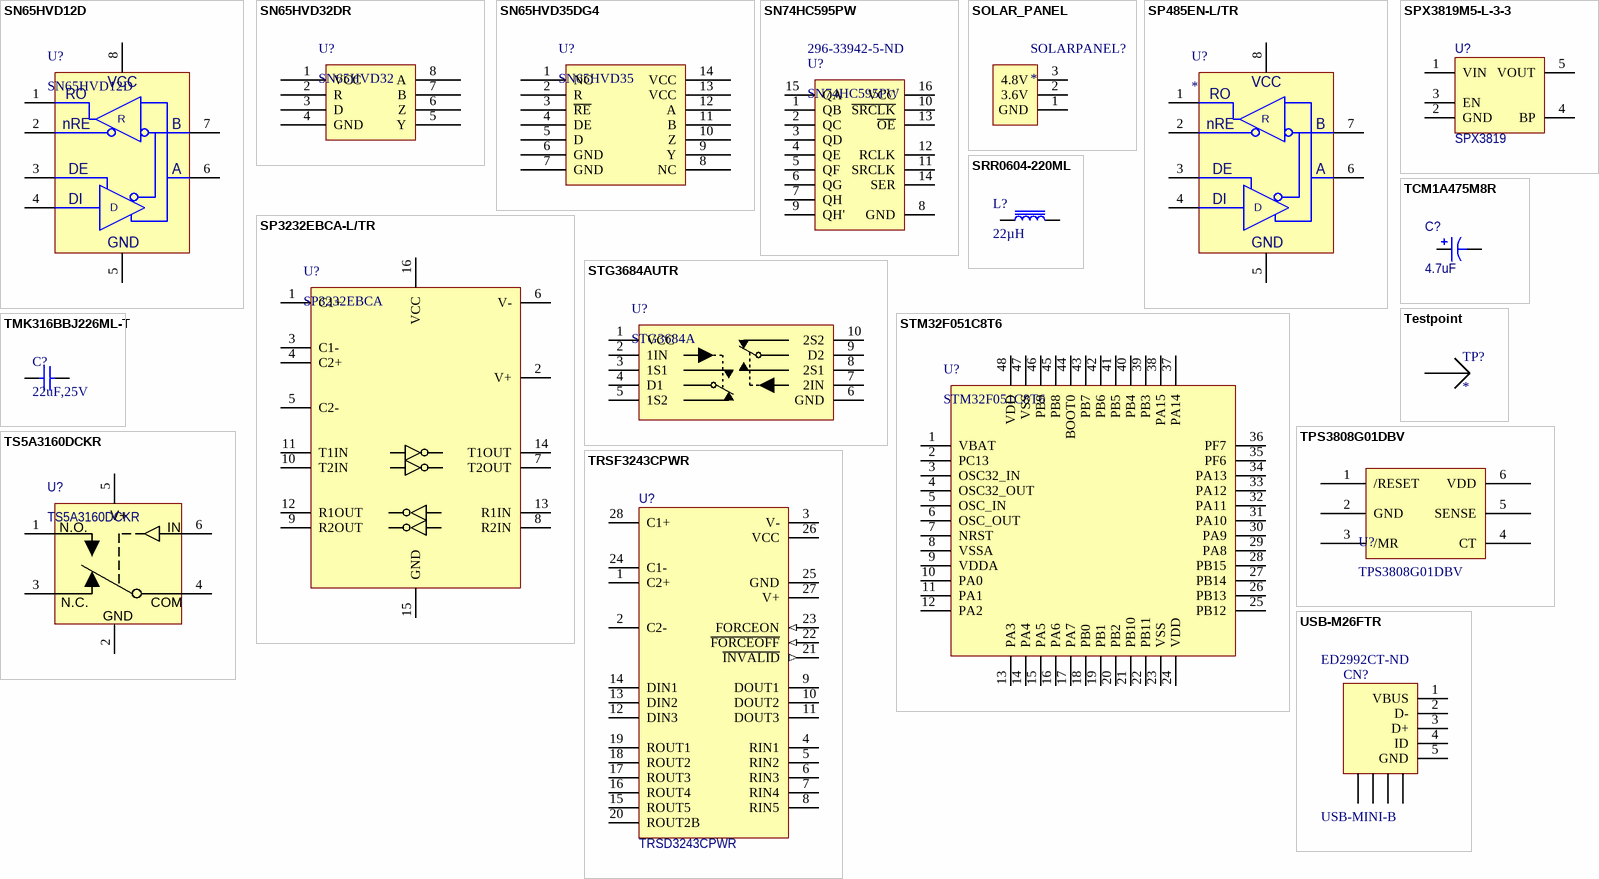
[diagram p5: symbols SN65HVD12D to USB-M26FTR]

## SN65HVD12D
designator U?
IC TRANSCEIVER RS485 3.3V 8-SOIC; Manufacturer: Texas Instruments; Number of Drivers/Receivers: 1/1; Voltage - Supply: 3 V ~ 3.6 V; OPI_VID: xxxxx; Supplier 1: Digi-Key; Manufacturer Part Number: SN65HVD12D; RoHS: RoHS Compliant; Category: Integrated Circuits (ICs); Stock 1: 12488; Pricing 1: 1=4.37, 25=3.5176, 100=3.2048, 250=2.8922, 500=2.59514, 1000=2.18867, 2500=2.07924, 5000=2.00107, 10000=1.93854 (CAD); Packaging: Tube; Type: Transceiver; Protocol: RS485; Mounting Type: Surface Mount; Package / Case: 8-SOIC (0.154", 3.90mm Width); Supplier Device Package: 8-SOIC; ComponentLink1URL: http://www.ti.com/lit/ds/symlink/sn65hvd11.pdf; ComponentLink1Description: http://www.ti.com/lit/ds/symlink/sn65hvd11.pdf; Supplier Part Number 1: 296-12647-5-ND
footprint SOIC127P600X265-8N (SOIC, 8-Leads, Body 5.0x4.0mm (max), Pitch 1.27mm, IPC Medium Density)
pins: 1 RO, 2 ~{RE}, 3 DE, 4 DI, 5 GND, 6 A, 7 B, 8 VCC
text: R; nRE; D